# Altium footprint library RBB_MCU7_V2.2.PcbLib: 20 footprints (part 1 of 2)
Each footprint in its own frame and in the unit in brackets; x right, y up, seen from the top. Pads: shape width x height; smd on the part's side, far side on the other; paste and mask are expansions set on the pad; w line width, h text height; cw(c..) or ccw(c..) is an arc to the next point about the centre after c.
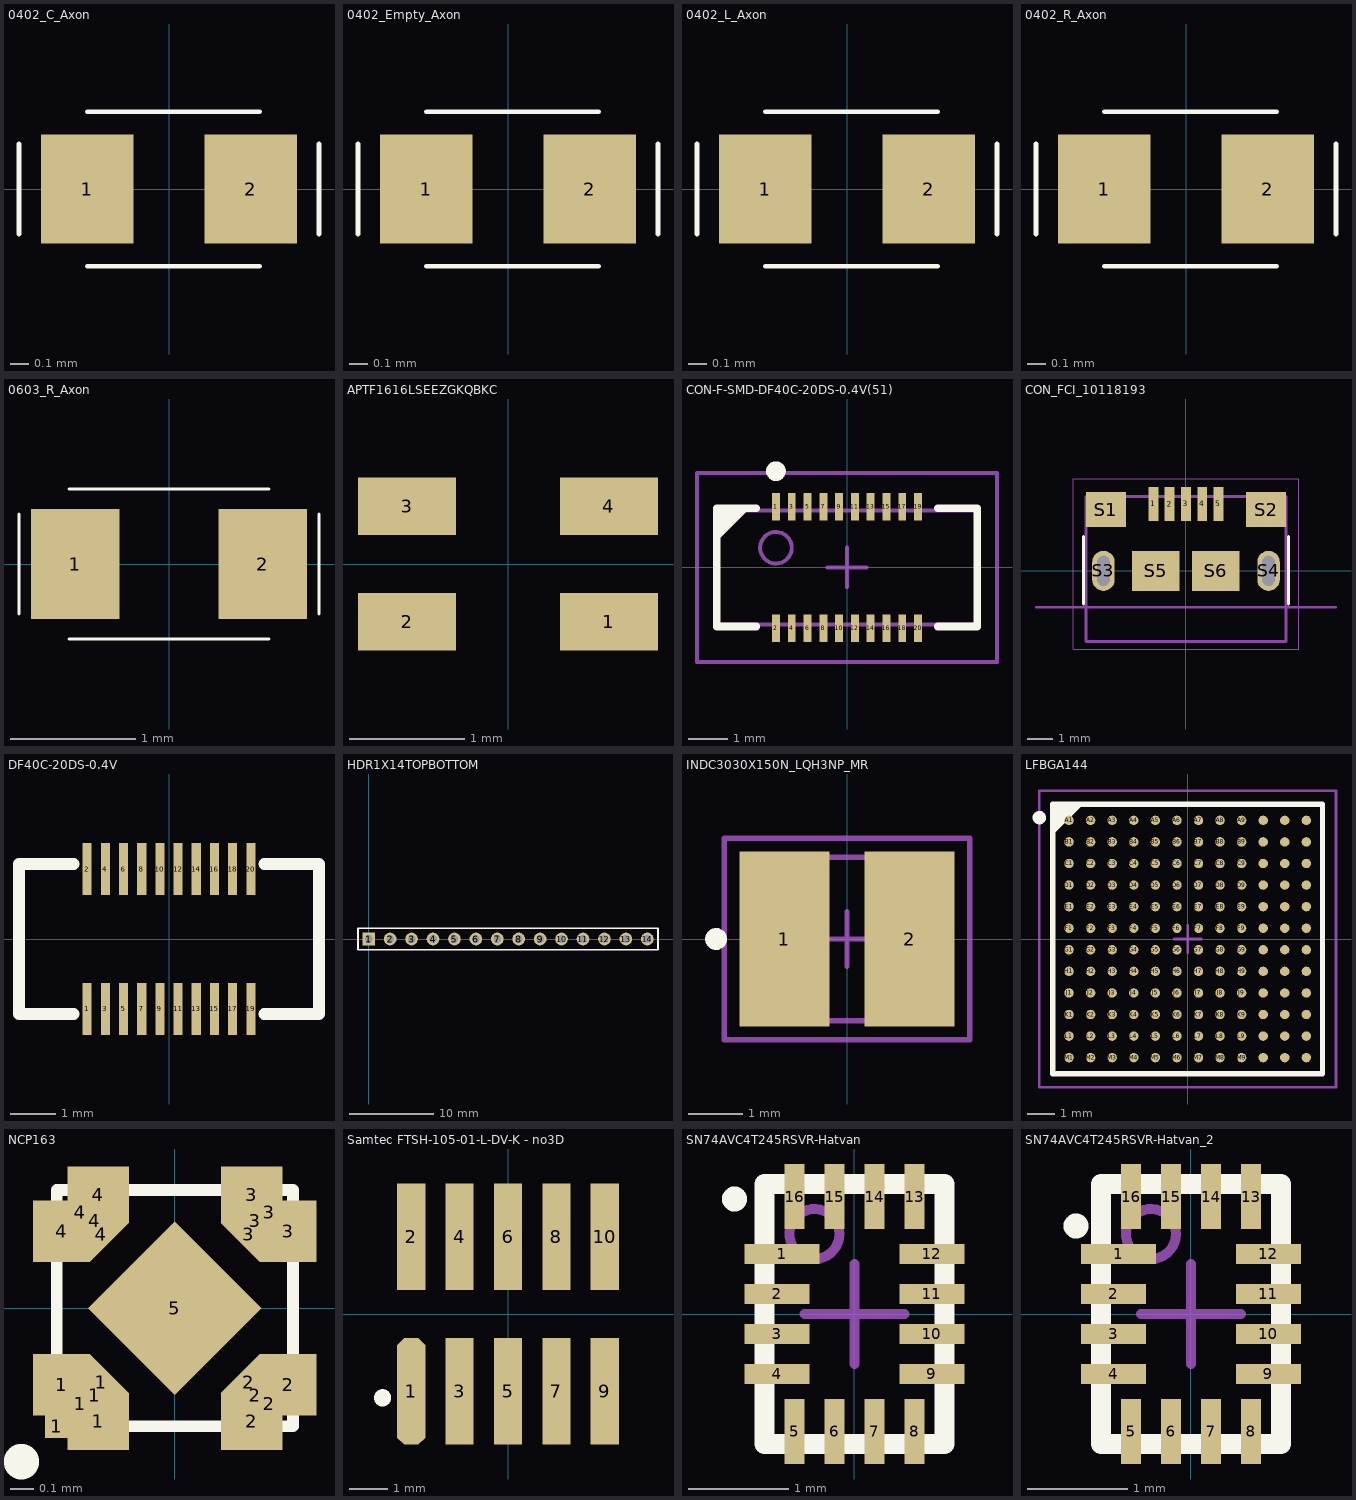
[diagram p0: the footprints below, top view; thin cyan lines are the x and y axes]

## 0402_C_Axon [mm]
height 0.295
pads (2):
  rect 0.51x0.6 smd: 1(-0.45,0) 2(0.45,0)
Top Overlay:
  lines w0.025: -0.825,-0.25 -0.825,0.25 ; -0.45,-0.425 0.5,-0.425 ; -0.45,0.425 0.5,0.425 ; 0.825,-0.25 0.825,0.25
3D body "User Library-C-0402.step": height 0.36, standoff 0, extent -0.5,-0.265 0.5,0.265

## 0402_Empty_Axon [mm]
pads (2):
  rect 0.51x0.6 smd: 1(-0.45,0) 2(0.45,0)
Top Overlay:
  lines w0.025: -0.825,-0.25 -0.825,0.25 ; -0.45,-0.425 0.5,-0.425 ; -0.45,0.425 0.5,0.425 ; 0.825,-0.25 0.825,0.25

## 0402_L_Axon [mm]
height 0.295
pads (2):
  rect 0.51x0.6 smd: 1(-0.45,0) 2(0.45,0)
Top Overlay:
  lines w0.025: -0.825,-0.25 -0.825,0.25 ; -0.45,-0.425 0.5,-0.425 ; -0.45,0.425 0.5,0.425 ; 0.825,-0.25 0.825,0.25
3D body "STEP-WE-CBF-0402-rev1.stp": height 0.5, standoff 0, extent -0.5,-0.25 0.5,0.25

## 0402_R_Axon [mm]
height 0.295
pads (2):
  rect 0.51x0.6 smd: 1(-0.45,0) 2(0.45,0)
Top Overlay:
  lines w0.025: -0.825,-0.25 -0.825,0.25 ; -0.45,-0.425 0.5,-0.425 ; -0.45,0.425 0.5,0.425 ; 0.825,-0.25 0.825,0.25
3D body "User Library-0402R.step": height 0.34, standoff 0, extent -0.52,-0.3 0.52,0.3

## 0603_R_Axon [mm]
height 0.295
pads (2):
  rect 0.71x0.88 smd: 1(-0.75,0) 2(0.75,0)
Top Overlay:
  lines w0.025: -1.2,-0.4 -1.2,0.4 ; -0.8,-0.6 0.8,-0.6 ; -0.8,0.6 0.8,0.6 ; 1.2,-0.4 1.2,0.4
3D body "User Library-RESC1608X05N.step": height 0.45, standoff 0, extent -0.775,-0.425 0.775,0.425

## APTF1616LSEEZGKQBKC [mm] "Kingbright - APTF1616LSEEZGKQBKC"
height 0.7
pads (4):
  rect 0.85x0.5 smd: 1(0.875,-0.5) 2(-0.875,-0.5) 3(-0.875,0.5) 4(0.875,0.5)
3D body "APTF1616.STEP": height 0.58, standoff -0.13, extent -0.8,-0.8 0.8,0.8

## CON-F-SMD-DF40C-20DS-0.4V(51) [mm] "Connector, SMD, 0.4 mm pitch, 20 pin, 6.60 mm L X 2.88 mm W X 1.60 mm H body"
height 1.6
pads (20):
  rect 0.2x0.7 smd paste+0 mask+0: 1(-1.8,1.54) 2(-1.8,-1.54) 3(-1.4,1.54) 4(-1.4,-1.54) 5(-1,1.54) 6(-1,-1.54) 7(-0.6,1.54) 8(-0.6,-1.54) 9(-0.2,1.54) 10(-0.2,-1.54) 11(0.2,1.54) 12(0.2,-1.54) 13(0.6,1.54) 14(0.6,-1.54) 15(1,1.54) 16(1,-1.54) 17(1.4,1.54) 18(1.4,-1.54) 19(1.8,1.54) 20(1.8,-1.54)
Top Overlay:
  circle w0.25: c-1.8,2.44 r0.125
  lines w0.2: -3.3,0.79 -2.591,1.5 ; -3.298,0.992 -2.791,1.5 ; -3.298,1.188 -2.95,1.498 ; -2.3,-1.5 -3.3,-1.5 -3.3,1.5 -2.3,1.5 ; 2.3,-1.5 3.3,-1.5 3.3,1.5 2.3,1.5
Mechanical 3:
  text ".DESIGNATOR" at 0,0 h1.2
Mechanical 13:
  circle w0.1: c-1.8,0.5 r0.4
  lines w0.1: -3.3,-1.44 3.3,-1.44 3.3,1.44 -3.3,1.44 -3.3,-1.44
Mechanical 15:
  lines w0.1: -0.5,0 0.5,0 ; 0,-0.5 0,0.5 ; -3.8,-2.39 3.8,-2.39 3.8,2.39 -3.8,2.39 -3.8,-2.39
3D body "DF40C-20DS.STEP": height 1.45, standoff 0, extent -3.3,-1.69 3.3,1.69

## CON_FCI_10118193 [mm]
pads (11):
  rect 0.4x1.35 smd: 1(-1.3,2.675) 2(-0.65,2.675) 3(0,2.675) 4(0.65,2.675) 5(1.3,2.675)
  rect 1.6x1.4 smd: S1(-3.2,2.45) S2(3.2,2.45)
  rrect100% 0.9x1.6 hole 0.5 slot 1.2 at 90 deg: S3(-3.3,0) S4(3.3,0)
  rect 1.9x1.6 smd: S5(-1.2,0) S6(1.2,0)
Top Overlay:
  lines w0.12: -4.1,-1.325 -4.1,1.375 ; 4.1,-1.325 4.1,1.375
Mechanical 4:
  lines w0.1: -6,-1.45 6,-1.45
Mechanical 13:
  lines w0.12: -4,-2.825 4,-2.825 4,2.975 -4,2.975 -4,-2.825
Mechanical 15:
  lines w0.05: -4.5,-3.125 -4.5,3.675 4.5,3.675 4.5,-3.125 -4.5,-3.125
3D body "10118193-0001lfc.stp": height 2.83, standoff -0.77, extent -3.929,-2.765 3.928,2.895

## DF40C-20DS-0.4V [mm] "Hirose DF40C-20DS-0.4V"
height 0.295
pads (20):
  rect 0.2x1.14 smd: 1(-1.8,-1.54) 2(-1.8,1.54) 3(-1.4,-1.54) 4(-1.4,1.54) 5(-1,-1.54) 6(-1,1.54) 7(-0.6,-1.54) 8(-0.6,1.54) 9(-0.2,-1.54) 10(-0.2,1.54) 11(0.2,-1.54) 12(0.2,1.54) 13(0.6,-1.54) 14(0.6,1.54) 15(1,-1.54) 16(1,1.54) 17(1.4,-1.54) 18(1.4,1.54) 19(1.8,-1.54) 20(1.8,1.54)
Top Overlay:
  lines w0.254: -2.1,-1.65 -3.3,-1.65 -3.3,1.65 -2.1,1.65 ; 2.1,-1.65 3.3,-1.65 3.3,1.65 2.1,1.65
3D body "DF40C-20DS.stp": height 1.4, standoff -0.05, extent -3.3,-1.7 3.3,1.68

## HDR1X14TOPBOTTOM [mm] "Connector; Header; 14 Position"
height 0.295
pads (14):
  rect 1.5x1.5 hole 0.9: 1(0,0)
  round 1.5 hole 0.9: 2(2.54,0) 3(5.08,0) 4(7.62,0) 5(10.16,0) 6(12.7,0) 7(15.24,0) 8(17.78,0) 9(20.32,0) 10(22.86,0) 11(25.4,0) 12(27.94,0) 13(30.48,0) 14(33.02,0)
Top Overlay:
  lines w0.2: -1.27,-1.27 34.29,-1.27 34.29,1.27 0.635,1.27 -1.27,1.27 -1.27,-1.27
Bottom Overlay:
  lines w0.2: -1.27,-1.27 34.29,-1.27 34.29,1.27 0.635,1.27 -1.27,1.27 -1.27,-1.27

## INDC3030X150N_LQH3NP_MR [mm] "Inductor,Chip;3.00mm L X 3.00mm W X 1.50mm H"
height 1.5
pads (2):
  rect 1.65x3.2 smd paste+0 mask+0: 1(-1.15,0) 2(1.15,0)
Top Overlay:
  circle w0.2: c-2.4,0 r0.1
Mechanical 3:
  text ".DESIGNATOR" at 0,0 h1.2
Mechanical 13:
  lines w0.1: -1.5,-1.5 -1.5,1.5 1.5,1.5 1.5,-1.5 -1.5,-1.5
Mechanical 15:
  lines w0.1: -0.5,0 0.5,0 ; 0,-0.5 0,0.5 ; -2.25,-1.85 2.25,-1.85 2.25,1.85 -2.25,1.85 -2.25,-1.85
3D body: height 0.33, standoff 0, extent -1.5,-1.347 -0.6,1.347
3D body: height 1.5, standoff 1.5, extent -1.2,-0.1 -1,0.1
3D body: height 1.5, standoff 1.1, extent -1.5,-1.5 1.5,1.5
3D body: height 0.4, standoff 0.03, extent -1.47,-1.5 1.47,1.5
3D body: height 1.2, standoff 0.3, extent -1.438,-1.447 1.45,1.447
3D body: height 0.33, standoff 0, extent 0.6,-1.347 1.5,1.347

## LFBGA144 [mm] "BGA, 144-Leads, Body 10x10mm, Pitch 0.8mm"
height 1.1
pads (144):
  round 0.35 smd: A1(-4.4,4.4) A2(-3.6,4.4) A3(-2.8,4.4) A4(-2,4.4) A5(-1.2,4.4) A6(-0.4,4.4) A7(0.4,4.4) A8(1.2,4.4) A9(2,4.4) A10(2.8,4.4) A11(3.6,4.4) A12(4.4,4.4) B1(-4.4,3.6) B2(-3.6,3.6) B3(-2.8,3.6) B4(-2,3.6) B5(-1.2,3.6) B6(-0.4,3.6) B7(0.4,3.6) B8(1.2,3.6) B9(2,3.6) B10(2.8,3.6) B11(3.6,3.6) B12(4.4,3.6) C1(-4.4,2.8) C2(-3.6,2.8) C3(-2.8,2.8) C4(-2,2.8) C5(-1.2,2.8) C6(-0.4,2.8) C7(0.4,2.8) C8(1.2,2.8) C9(2,2.8) C10(2.8,2.8) C11(3.6,2.8) C12(4.4,2.8) D1(-4.4,2) D2(-3.6,2) D3(-2.8,2) D4(-2,2) D5(-1.2,2) D6(-0.4,2) D7(0.4,2) D8(1.2,2) D9(2,2) D10(2.8,2) D11(3.6,2) D12(4.4,2) E1(-4.4,1.2) E2(-3.6,1.2) E3(-2.8,1.2) E4(-2,1.2) E5(-1.2,1.2) E6(-0.4,1.2) E7(0.4,1.2) E8(1.2,1.2) E9(2,1.2) E10(2.8,1.2) E11(3.6,1.2) E12(4.4,1.2) F1(-4.4,0.4) F2(-3.6,0.4) F3(-2.8,0.4) F4(-2,0.4) F5(-1.2,0.4) F6(-0.4,0.4) F7(0.4,0.4) F8(1.2,0.4) F9(2,0.4) F10(2.8,0.4) F11(3.6,0.4) F12(4.4,0.4) G1(-4.4,-0.4) G2(-3.6,-0.4) G3(-2.8,-0.4) G4(-2,-0.4) G5(-1.2,-0.4) G6(-0.4,-0.4) G7(0.4,-0.4) G8(1.2,-0.4) G9(2,-0.4) G10(2.8,-0.4) G11(3.6,-0.4) G12(4.4,-0.4) H1(-4.4,-1.2) H2(-3.6,-1.2) H3(-2.8,-1.2) H4(-2,-1.2) H5(-1.2,-1.2) H6(-0.4,-1.2) H7(0.4,-1.2) H8(1.2,-1.2) H9(2,-1.2) H10(2.8,-1.2) H11(3.6,-1.2) H12(4.4,-1.2) J1(-4.4,-2) J2(-3.6,-2) J3(-2.8,-2) J4(-2,-2) J5(-1.2,-2) J6(-0.4,-2) J7(0.4,-2) J8(1.2,-2) J9(2,-2) J10(2.8,-2) J11(3.6,-2) J12(4.4,-2) K1(-4.4,-2.8) K2(-3.6,-2.8) K3(-2.8,-2.8) K4(-2,-2.8) K5(-1.2,-2.8) K6(-0.4,-2.8) K7(0.4,-2.8) K8(1.2,-2.8) K9(2,-2.8) K10(2.8,-2.8) K11(3.6,-2.8) K12(4.4,-2.8) L1(-4.4,-3.6) L2(-3.6,-3.6) L3(-2.8,-3.6) L4(-2,-3.6) L5(-1.2,-3.6) L6(-0.4,-3.6) L7(0.4,-3.6) L8(1.2,-3.6) L9(2,-3.6) L10(2.8,-3.6) L11(3.6,-3.6) L12(4.4,-3.6) M1(-4.4,-4.4) M2(-3.6,-4.4) M3(-2.8,-4.4) M4(-2,-4.4) M5(-1.2,-4.4) M6(-0.4,-4.4) M7(0.4,-4.4) M8(1.2,-4.4) M9(2,-4.4) M10(2.8,-4.4) M11(3.6,-4.4) M12(4.4,-4.4)
Top Overlay:
  circle w0.25: c-5.5,4.5 r0.125
  region: -4.084,5 -5,4.084 -5,5
  lines w0.2: -5,4 -4.084,4.916 ; -5,-5 -5,5 5,5 5,-5 -5,-5
Mechanical 13:
  lines w0.1: -5,-5 -5,5 5,5 5,-5 -5,-5
Mechanical 15:
  lines w0.1: -0.5,0 0.5,0 ; 0,-0.5 0,0.5 ; -5.5,-5.5 -5.5,5.5 5.5,5.5 5.5,-5.5 -5.5,-5.5
3D body: height 1.1, standoff 0, extent -5,-5 5,5

## NCP163 [mm] "LDO 500mA"
pads (22):
  rect 0.1x0.1 smd: 1(-0.5,-0.5) 1(-0.34,-0.37) 2(0.34,-0.37) 3(0.34,0.37) 4(-0.34,0.37)
  rect 0.24x0.26 smd: 1(-0.48,-0.325) 2(0.48,-0.325) 3(0.48,0.325) 4(-0.48,0.325)
  rect 0.11x0.39 smd: 1(-0.4,-0.405) 2(0.4,-0.405) 3(0.4,0.405) 4(-0.4,0.405)
  rect 0.26x0.24 smd: 1(-0.325,-0.48) 2(0.325,-0.48) 3(0.325,0.48) 4(-0.325,0.48)
  rect 0.1x0.235 smd rot 45: 1(-0.312,-0.313) 3(0.312,0.313)
  rect 0.235x0.1 smd rot 45: 2(0.312,-0.313) 4(-0.312,0.313)
  rect 0.52x0.52 smd rot 45: 5(0,0)
Top Overlay:
  circle w0.13: c-0.65,-0.65 r0.01
  lines w0.05: -0.5,-0.5 -0.5,0.5 0.5,0.5 0.5,-0.5 -0.5,-0.5
3D body: height 0.4, standoff 0, extent -0.5,-0.5 0.5,0.5

## Samtec FTSH-105-01-L-DV-K - no3D [mil] "Connector; Header; 5x2 Position"
height 39.37
pads (10):
  oct 29x110 smd: 1(-100,-80)
  rect 29x110 smd: 2(-100,80) 3(-50,-80) 4(-50,80) 5(0,-80) 6(0,80) 7(50,-80) 8(50,80) 9(100,-80) 10(100,80)
Top Overlay:
  circle w10: c-129.61,-86.61 r3.94

## SN74AVC4T245RSVR-Hatvan [mm] "UQFN, 16 Pins, 2.6mm L X 1.8mm W X 0.55mm H body"
height 0.55
pads (16):
  rect 0.75x0.2 smd paste+0 mask+0: 1(-0.725,0.6)
  rect 0.65x0.2 smd paste+0 mask+0: 2(-0.775,0.2) 3(-0.775,-0.2) 4(-0.775,-0.6) 9(0.775,-0.6) 10(0.775,-0.2) 11(0.775,0.2) 12(0.775,0.6)
  rect 0.2x0.65 smd paste+0 mask+0: 5(-0.6,-1.175) 6(-0.2,-1.175) 7(0.2,-1.175) 8(0.6,-1.175) 13(0.6,1.175) 14(0.2,1.175) 15(-0.2,1.175) 16(-0.6,1.175)
Top Overlay:
  circle w0.15: c-1.2,1.15 r0.05
  lines w0.2: -0.9,-1.301 0.901,-1.301 0.901,1.301 -0.9,1.301 -0.9,-1.301
Mechanical 13:
  circle w0.1: c-0.4,0.8 r0.25
  lines w0.1: -0.9,-1.3 0.9,-1.3 0.9,1.3 -0.9,1.3 -0.9,-1.3
Mechanical 15:
  lines w0.1: -0.5,0 0.5,0 ; 0,-0.5 0,0.5
3D body: height 0.13, standoff 0, extent -0.901,0.1 -0.501,0.3
3D body: height 0.13, standoff 0, extent -0.901,-0.3 -0.501,-0.1
3D body: height 0.13, standoff 0, extent -0.901,-0.7 -0.501,-0.5
3D body: height 0.13, standoff 0, extent 0.501,-0.7 0.901,-0.5
3D body: height 0.13, standoff 0, extent 0.501,-0.3 0.901,-0.1
3D body: height 0.13, standoff 0, extent 0.501,0.1 0.901,0.3
3D body: height 0.13, standoff 0, extent 0.501,0.5 0.901,0.7
3D body: height 0.13, standoff 0, extent -0.7,-1.301 -0.5,-0.901
3D body: height 0.13, standoff 0, extent -0.3,-1.301 -0.1,-0.901
3D body: height 0.13, standoff 0, extent 0.1,-1.301 0.3,-0.901
3D body: height 0.13, standoff 0, extent 0.5,-1.301 0.7,-0.901
3D body: height 0.13, standoff 0, extent -0.7,0.901 -0.5,1.301
3D body: height 0.13, standoff 0, extent -0.3,0.901 -0.1,1.301
3D body: height 0.13, standoff 0, extent 0.1,0.901 0.3,1.301
3D body: height 0.55, standoff 0.01, extent -0.9,-1.3 0.9,1.3
3D body: height 0.13, standoff 0, extent -0.901,0.5 -0.401,0.7
3D body: height 0.55, standoff 0.55, extent -0.75,0.851 -0.45,1.15
3D body: height 0.13, standoff 0, extent 0.5,0.901 0.7,1.301

## SN74AVC4T245RSVR-Hatvan_2 [mm]
pads (16):
  rect 0.75x0.2 smd paste+0 mask+0: 1(-0.725,0.6)
  rect 0.65x0.2 smd paste+0 mask+0: 2(-0.775,0.2) 3(-0.775,-0.2) 4(-0.775,-0.6) 9(0.775,-0.6) 10(0.775,-0.2) 11(0.775,0.2) 12(0.775,0.6)
  rect 0.2x0.65 smd paste+0 mask+0: 5(-0.6,-1.175) 6(-0.2,-1.175) 7(0.2,-1.175) 8(0.6,-1.175) 13(0.6,1.175) 14(0.2,1.175) 15(-0.2,1.175) 16(-0.6,1.175)
Top Overlay:
  circle w0.15: c-1.15,0.88 r0.05
  lines w0.2: -0.9,-1.301 -0.9,1.301 0.901,1.301 0.901,-1.301 -0.9,-1.301
Mechanical 13:
  circle w0.1: c-0.4,0.8 r0.25
  lines w0.1: -0.9,-1.3 -0.9,1.3 0.9,1.3 0.9,-1.3 -0.9,-1.3
Mechanical 15:
  lines w0.1: -0.5,0 0.5,0 ; 0,-0.5 0,0.5
3D body: height 0.13, standoff 0, extent 0.5,0.901 0.7,1.301
3D body: height 0.55, standoff 0.55, extent -0.75,0.851 -0.45,1.15
3D body: height 0.13, standoff 0, extent -0.901,0.5 -0.401,0.7
3D body: height 0.55, standoff 0.01, extent -0.9,-1.3 0.9,1.3
3D body: height 0.13, standoff 0, extent 0.1,0.901 0.3,1.301
3D body: height 0.13, standoff 0, extent -0.3,0.901 -0.1,1.301
3D body: height 0.13, standoff 0, extent -0.7,0.901 -0.5,1.301
3D body: height 0.13, standoff 0, extent 0.5,-1.301 0.7,-0.901
3D body: height 0.13, standoff 0, extent 0.1,-1.301 0.3,-0.901
3D body: height 0.13, standoff 0, extent -0.3,-1.301 -0.1,-0.901
3D body: height 0.13, standoff 0, extent -0.7,-1.301 -0.5,-0.901
3D body: height 0.13, standoff 0, extent 0.501,0.5 0.901,0.7
3D body: height 0.13, standoff 0, extent 0.501,0.1 0.901,0.3
3D body: height 0.13, standoff 0, extent 0.501,-0.3 0.901,-0.1
3D body: height 0.13, standoff 0, extent 0.501,-0.7 0.901,-0.5
3D body: height 0.13, standoff 0, extent -0.901,-0.7 -0.501,-0.5
3D body: height 0.13, standoff 0, extent -0.901,-0.3 -0.501,-0.1
3D body: height 0.13, standoff 0, extent -0.901,0.1 -0.501,0.3